# Altium footprint library 2020-01-30_15-29-23.PcbLib: 3 footprints
Each footprint in its own frame and in the unit in brackets; x right, y up, seen from the top. Pads: shape width x height; smd on the part's side, far side on the other; paste and mask are expansions set on the pad; w line width, h text height; cw(c..) or ccw(c..) is an arc to the next point about the centre after c.
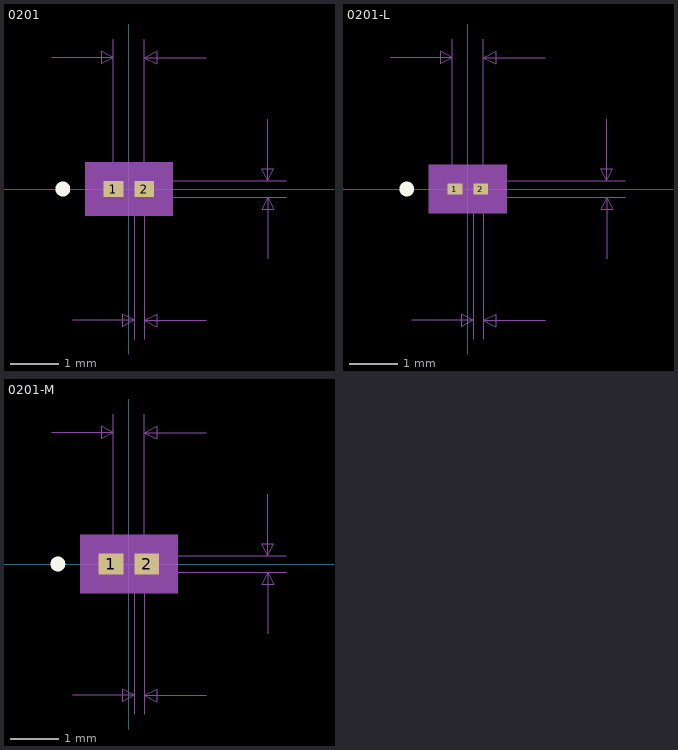
[diagram p0: the footprints below, top view; thin cyan lines are the x and y axes]

## 0201 [mil]
pads (2):
  rect 16x13 smd: 1(-12.5,0) 2(12.5,0)
Top Overlay:
  circle w6: c-53.5,0 r3
Mechanical 5:
  region: 35.5,-21.5 -35.5,-21.5 -35.5,21.5 35.5,21.5
Mechanical 7:
  lines w1: -62.5,106.5 -12.5,106.5 ; -45.5,-106.5 4.5,-106.5 ; -12.5,0 -12.5,121.5 ; 0,-6.5 127.5,-6.5 ; 0,6.5 127.5,6.5 ; 4.5,-121.5 4.5,0 ; 12.5,-121.5 12.5,0 12.5,121.5 ; 62.5,-106.5 12.5,-106.5 ; 62.5,106.5 12.5,106.5 ; 112.5,-56.5 112.5,-6.5 ; 112.5,56.5 112.5,6.5 ; -12.5,106.5 -22.5,111.5 -22.5,101.5 -12.5,106.5 ; 4.5,-106.5 -5.5,-101.5 -5.5,-111.5 4.5,-106.5 ; 12.5,-106.5 22.5,-101.5 22.5,-111.5 12.5,-106.5 ; 12.5,106.5 22.5,111.5 22.5,101.5 12.5,106.5 ; 112.5,-6.5 107.5,-16.5 117.5,-16.5 112.5,-6.5 ; 112.5,6.5 107.5,16.5 117.5,16.5 112.5,6.5
  text "Default Padstyle: RX16Y13D0T" at -350,-276.5 h50
  text "Alternate 1 Padstyle: OX60Y90D30P" at -412.5,-376.5 h50
  text "Alternate 2 Padstyle: OX90Y60D30P" at -412.5,-476.5 h50
  text "0.013in/0.33mm" at 132.5,-12.5 h25
  text "0.025in/0.635mm" at -93.75,126.5 h25
  text "0.008in/0.203mm" at -85.25,-151.5 h25
Mechanical 13:
  circle w0: c-2.5,0 r3
  lines w1: -12.5,-6.5 -12.5,6.5 ; -12.5,-6.5 -4.5,-6.5 -4.5,6.5 -12.5,6.5 ; -12.5,-6.5 12.5,-6.5 ; -12.5,-6.5 -12.5,6.5 ; -12.5,6.5 12.5,6.5 ; 12.5,-6.5 4.5,-6.5 4.5,6.5 12.5,6.5 ; 12.5,-6.5 12.5,6.5 ; 12.5,-6.5 12.5,6.5
Mechanical 15:
  region: 26.5,-12.5 -26.5,-12.5 -26.5,12.5 26.5,12.5
  lines w6: -26.5,-12.5 -26.5,12.5 26.5,12.5 26.5,-12.5 -26.5,-12.5
3D body: height 10, standoff 0, extent 0,0 10,10

## 0201-L [mil]
pads (2):
  rect 12x9 smd paste+0 mask+0: 1(-10.5,0) 2(10.5,0)
Top Overlay:
  circle w6: c-49.5,0 r3
Mechanical 5:
  region: 31.5,-19.5 -31.5,-19.5 -31.5,19.5 31.5,19.5
Mechanical 7:
  lines w1: -62.5,106.5 -12.5,106.5 ; -45.5,-106.5 4.5,-106.5 ; -12.5,0 -12.5,121.5 ; 0,-6.5 127.5,-6.5 ; 0,6.5 127.5,6.5 ; 4.5,-121.5 4.5,0 ; 12.5,-121.5 12.5,0 12.5,121.5 ; 62.5,-106.5 12.5,-106.5 ; 62.5,106.5 12.5,106.5 ; 112.5,-56.5 112.5,-6.5 ; 112.5,56.5 112.5,6.5 ; -12.5,106.5 -22.5,111.5 -22.5,101.5 -12.5,106.5 ; 4.5,-106.5 -5.5,-101.5 -5.5,-111.5 4.5,-106.5 ; 12.5,-106.5 22.5,-101.5 22.5,-111.5 12.5,-106.5 ; 12.5,106.5 22.5,111.5 22.5,101.5 12.5,106.5 ; 112.5,-6.5 107.5,-16.5 117.5,-16.5 112.5,-6.5 ; 112.5,6.5 107.5,16.5 117.5,16.5 112.5,6.5
  text "Default Padstyle: RX12Y9D0T" at -337.5,-274.5 h50
  text "Alternate 1 Padstyle: OX60Y90D30P" at -412.5,-374.5 h50
  text "Alternate 2 Padstyle: OX90Y60D30P" at -412.5,-474.5 h50
  text "0.013in/0.33mm" at 132.5,-12.5 h25
  text "0.025in/0.635mm" at -93.75,126.5 h25
  text "0.008in/0.203mm" at -85.25,-151.5 h25
Mechanical 13:
  circle w0: c-2.5,0 r3
  lines w1: -12.5,-6.5 -12.5,6.5 ; -12.5,-6.5 -4.5,-6.5 -4.5,6.5 -12.5,6.5 ; -12.5,-6.5 12.5,-6.5 ; -12.5,-6.5 -12.5,6.5 ; -12.5,6.5 12.5,6.5 ; 12.5,-6.5 4.5,-6.5 4.5,6.5 12.5,6.5 ; 12.5,-6.5 12.5,6.5 ; 12.5,-6.5 12.5,6.5
Mechanical 15:
  region: 20.5,-8.5 -20.5,-8.5 -20.5,8.5 20.5,8.5
  lines w6: -20.5,-8.5 -20.5,8.5 20.5,8.5 20.5,-8.5 -20.5,-8.5
3D body: height 10, standoff 0, extent 0,0 10,10

## 0201-M [mil]
pads (2):
  rect 20x17 smd paste+0 mask+0: 1(-14.5,0) 2(14.5,0)
Top Overlay:
  circle w6: c-57.5,0 r3
Mechanical 5:
  region: 39.5,-23.5 -39.5,-23.5 -39.5,23.5 39.5,23.5
Mechanical 7:
  lines w1: -62.5,106.5 -12.5,106.5 ; -45.5,-106.5 4.5,-106.5 ; -12.5,0 -12.5,121.5 ; 0,-6.5 127.5,-6.5 ; 0,6.5 127.5,6.5 ; 4.5,-121.5 4.5,0 ; 12.5,-121.5 12.5,0 12.5,121.5 ; 62.5,-106.5 12.5,-106.5 ; 62.5,106.5 12.5,106.5 ; 112.5,-56.5 112.5,-6.5 ; 112.5,56.5 112.5,6.5 ; -12.5,106.5 -22.5,111.5 -22.5,101.5 -12.5,106.5 ; 4.5,-106.5 -5.5,-101.5 -5.5,-111.5 4.5,-106.5 ; 12.5,-106.5 22.5,-101.5 22.5,-111.5 12.5,-106.5 ; 12.5,106.5 22.5,111.5 22.5,101.5 12.5,106.5 ; 112.5,-6.5 107.5,-16.5 117.5,-16.5 112.5,-6.5 ; 112.5,6.5 107.5,16.5 117.5,16.5 112.5,6.5
  text "Default Padstyle: RX20Y17D0T" at -350,-278.5 h50
  text "Alternate 1 Padstyle: OX60Y90D30P" at -412.5,-378.5 h50
  text "Alternate 2 Padstyle: OX90Y60D30P" at -412.5,-478.5 h50
  text "0.013in/0.33mm" at 132.5,-12.5 h25
  text "0.025in/0.635mm" at -93.75,126.5 h25
  text "0.008in/0.203mm" at -85.25,-151.5 h25
Mechanical 13:
  circle w0: c-2.5,0 r3
  lines w1: -12.5,-6.5 -12.5,6.5 ; -12.5,-6.5 -4.5,-6.5 -4.5,6.5 -12.5,6.5 ; -12.5,-6.5 12.5,-6.5 ; -12.5,-6.5 -12.5,6.5 ; -12.5,6.5 12.5,6.5 ; 12.5,-6.5 4.5,-6.5 4.5,6.5 12.5,6.5 ; 12.5,-6.5 12.5,6.5 ; 12.5,-6.5 12.5,6.5
Mechanical 15:
  region: 32.5,-16.5 -32.5,-16.5 -32.5,16.5 32.5,16.5
  lines w6: -32.5,-16.5 -32.5,16.5 32.5,16.5 32.5,-16.5 -32.5,-16.5
3D body: height 10, standoff 0, extent 0,0 10,10